# Altium integrated library Texas Instruments Power Management PWM Controller.IntLib: 1227 symbols (part 43 of 49)
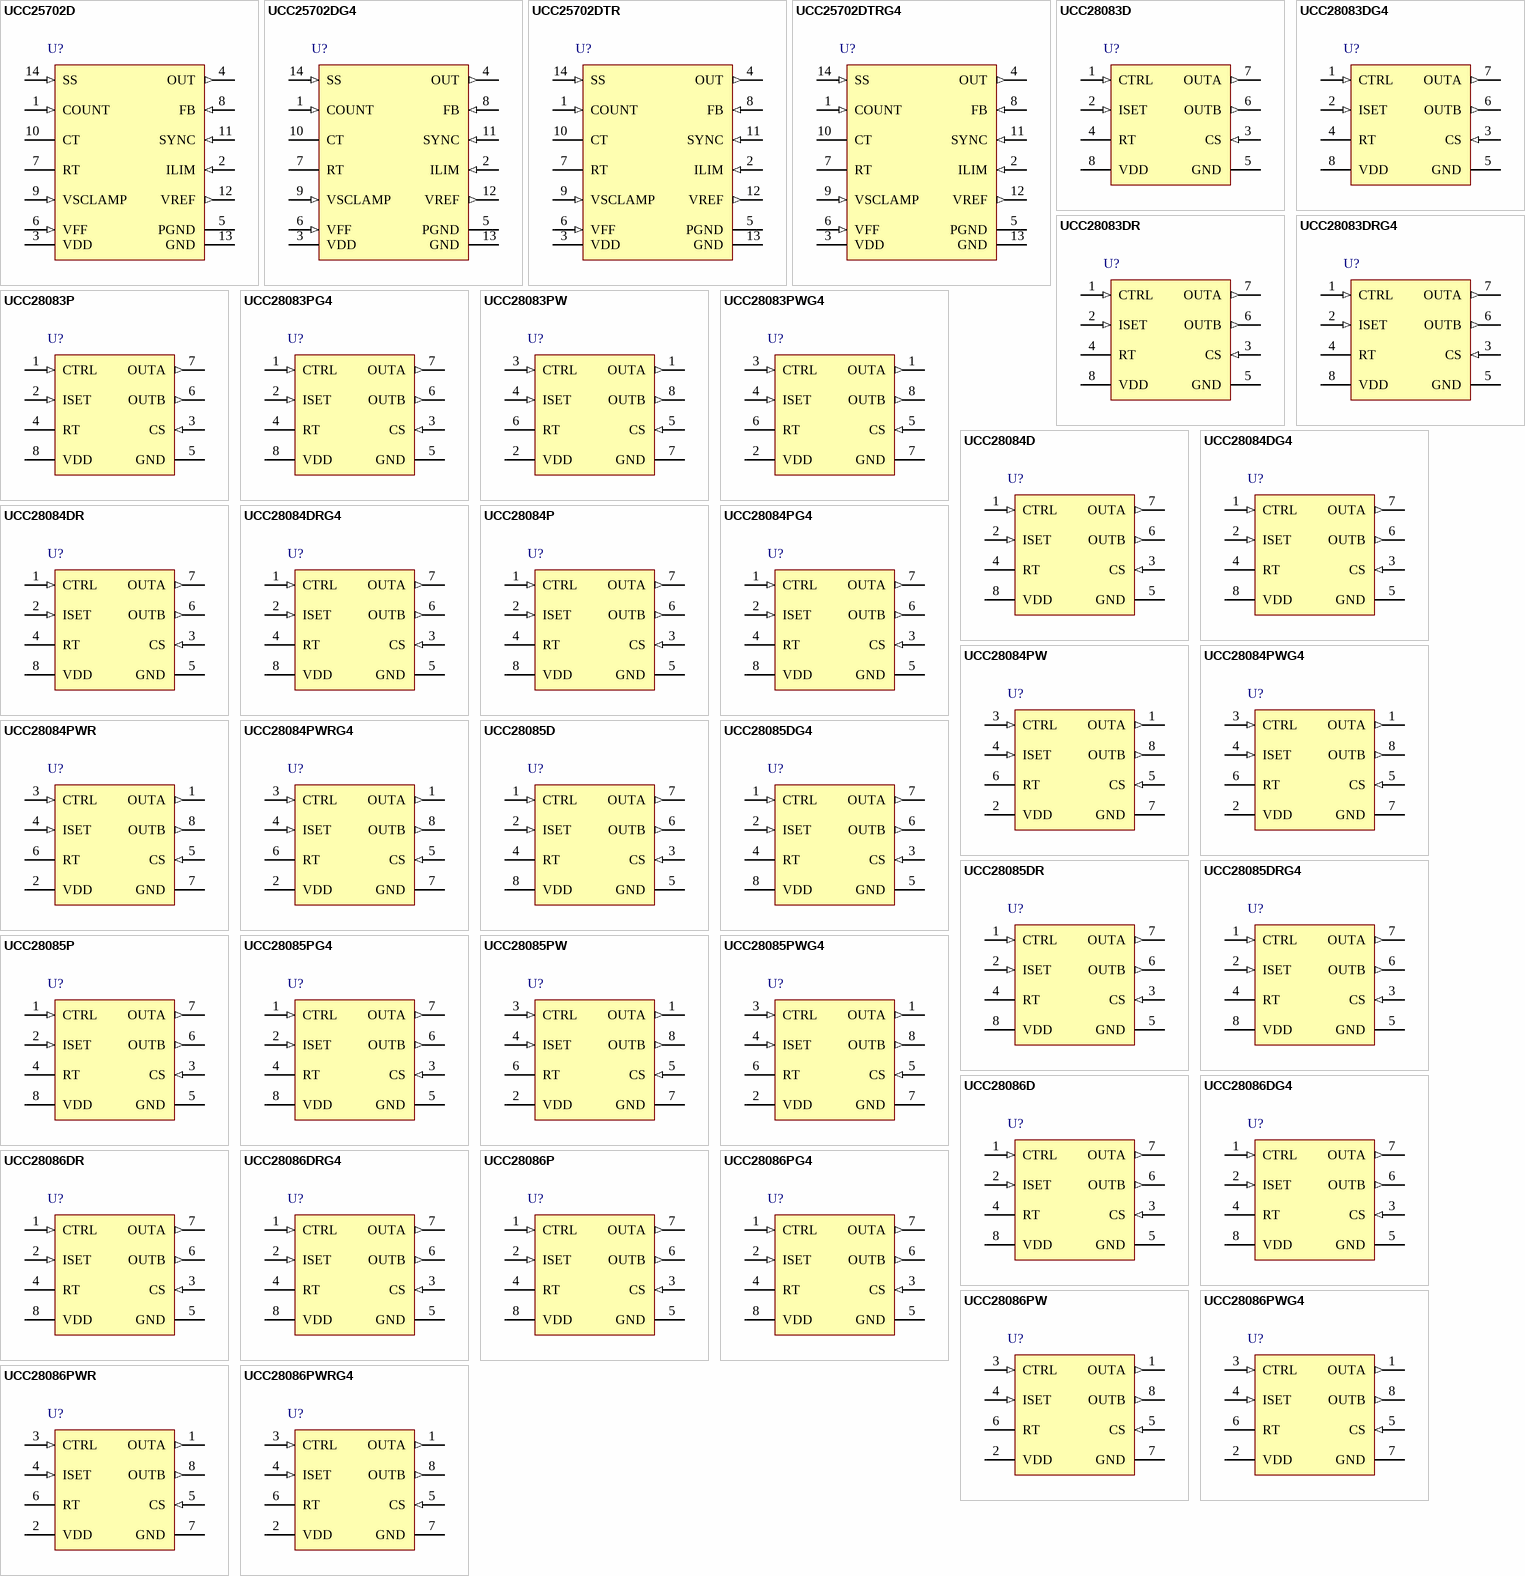
[diagram p85: symbols UCC25702D to UCC28086PWRG4]

## UCC28085DR
designator U?
Push-Pull PWM Controller with Programmable Slope Compensation with Current Control, 50 % Duty Cycle, -40 to +85 degC, 8-pin SOIC (D), Green (RoHS & no Sb/Br); PartNumber: UCC28085DR; Manufacturer: Texas Instruments; Duty Cycle(Max)(%): 50; Frequency(Max)(kHz): 1000; Rating: Catalog; Regulated Outputs(#): 2; Topology: Half-Bridge, Push-Pull; UVLO Thresholds On/Off(V): 12.5/8.3; DatasheetVersion: SLUS488E; PackageVersion: revM, Jun-2011; PackageReference: D8; PackageDescription: 8-Pin Plastic Small Outline Integrated Circuit, 4.9 x 3.9 mm, Pitch 1.27 mm Pitch; Supplier 1: Digi-Key; Supplier Part Number 1: UCC28085DR-ND; Supplier 2: Mouser; Supplier Part Number 2: 595-UCC28085DR; Control Method: Current; Eco-Plan: Green (RoHS & no Sb/Br); SubFamily: PWM Controller; Mounting Technology: Surface Mount; Code_JEDEC: MS-012AA; ComponentLink1Description: Datasheet; ComponentLink1URL: http://www.ti.com/general/docs/lit/getliterature.tsp?genericPartNumber=UCC28085&fileType=pdf
footprint D8_N (SOIC, 8-Leads, Body 4.9x3.9mm, Pitch 1.27mm, IPC Medium Density)
footprint D8_L (SOIC, 8-Leads, Body 4.9x3.9mm, Pitch 1.27mm, IPC High Density)
footprint D8_M (SOIC, 8-Leads, Body 4.9x3.9mm, Pitch 1.27mm, IPC Low Density)
pins: 1 CTRL (in) "Error voltage input to PWM comparator.", 2 ISET (in) "Current selection for slope compensation.", 3 CS (in) "The current-sense input to the PWM comparator, the cycle-by-cycle peak current comparator, and the overcurrent comparator. The overcurrent comparator is only intended for fault sensing. Exceeding the overcurrent threshold (See Datasheet)", 4 RT "Programs the oscillator.", 5 GND (power) "Reference ground and power ground for all functions. Due to high currents, and high-frequency operation of the IC, a low-impedance circuit board ground plane is highly recommended.", 6 OUTB (out) "Alternating high-current output stages.", 7 OUTA (out) "Alternating high-current output stages.", 8 VDD (power) "Power input connection."

## UCC28085DRG4
designator U?
Push-Pull PWM Controller with Programmable Slope Compensation with Current Control, 50 % Duty Cycle, -40 to +85 degC, 8-pin SOIC (D), Green (RoHS & no Sb/Br); PartNumber: UCC28085DRG4; Manufacturer: Texas Instruments; Duty Cycle(Max)(%): 50; Frequency(Max)(kHz): 1000; Rating: Catalog; Regulated Outputs(#): 2; Topology: Half-Bridge, Push-Pull; UVLO Thresholds On/Off(V): 12.5/8.3; DatasheetVersion: SLUS488E; PackageVersion: revM, Jun-2011; PackageReference: D8; PackageDescription: 8-Pin Plastic Small Outline Integrated Circuit, 4.9 x 3.9 mm, Pitch 1.27 mm Pitch; Supplier 1: Digi-Key; Supplier Part Number 1: UCC28085DRG4-ND; Supplier 2: Mouser; Supplier Part Number 2: 595-UCC28085DRG4; Control Method: Current; Eco-Plan: Green (RoHS & no Sb/Br); SubFamily: PWM Controller; Mounting Technology: Surface Mount; Code_JEDEC: MS-012AA; ComponentLink1Description: Datasheet; ComponentLink1URL: http://www.ti.com/general/docs/lit/getliterature.tsp?genericPartNumber=UCC28085&fileType=pdf
footprint D8_N (SOIC, 8-Leads, Body 4.9x3.9mm, Pitch 1.27mm, IPC Medium Density)
footprint D8_L (SOIC, 8-Leads, Body 4.9x3.9mm, Pitch 1.27mm, IPC High Density)
footprint D8_M (SOIC, 8-Leads, Body 4.9x3.9mm, Pitch 1.27mm, IPC Low Density)
pins: 1 CTRL (in) "Error voltage input to PWM comparator.", 2 ISET (in) "Current selection for slope compensation.", 3 CS (in) "The current-sense input to the PWM comparator, the cycle-by-cycle peak current comparator, and the overcurrent comparator. The overcurrent comparator is only intended for fault sensing. Exceeding the overcurrent threshold (See Datasheet)", 4 RT "Programs the oscillator.", 5 GND (power) "Reference ground and power ground for all functions. Due to high currents, and high-frequency operation of the IC, a low-impedance circuit board ground plane is highly recommended.", 6 OUTB (out) "Alternating high-current output stages.", 7 OUTA (out) "Alternating high-current output stages.", 8 VDD (power) "Power input connection."

## UCC28085P
designator U?
Push-Pull PWM Controller with Programmable Slope Compensation with Current Control, 50 % Duty Cycle, -40 to +85 degC, 8-pin PDIP (P), Green (RoHS & no Sb/Br); PartNumber: UCC28085P; Manufacturer: Texas Instruments; Duty Cycle(Max)(%): 50; Frequency(Max)(kHz): 1000; Rating: Catalog; Regulated Outputs(#): 2; Topology: Half-Bridge, Push-Pull; UVLO Thresholds On/Off(V): 12.5/8.3; DatasheetVersion: SLUS488E; PackageVersion: revE, Apr-2010; PackageReference: P8; PackageDescription: 8-Pin Plastic Dual-In-Line Package, Row Spacing 7.62 mm, Pitch 2.54 mm; Supplier 1: Digi-Key; Supplier Part Number 1: 296-13681-5-ND; Supplier 2: Newark; Supplier Part Number 2: 02E7320; Supplier 3: Mouser; Supplier Part Number 3: 595-UCC28085P; Control Method: Current; Eco-Plan: Green (RoHS & no Sb/Br); SubFamily: PWM Controller; Mounting Technology: Through Hole; Code_JEDEC: MS-001-BA; ComponentLink1Description: Datasheet; ComponentLink1URL: http://www.ti.com/general/docs/lit/getliterature.tsp?genericPartNumber=UCC28085&fileType=pdf
footprint P8 (DIP, 8-Leads, Row Spacing 7.62mm, Pitch 2.54mm, Body 9.6x6.4mm)
pins: 1 CTRL (in) "Error voltage input to PWM comparator.", 2 ISET (in) "Current selection for slope compensation.", 3 CS (in) "The current-sense input to the PWM comparator, the cycle-by-cycle peak current comparator, and the overcurrent comparator. The overcurrent comparator is only intended for fault sensing. Exceeding the overcurrent threshold (See Datasheet)", 4 RT "Programs the oscillator.", 5 GND (power) "Reference ground and power ground for all functions. Due to high currents, and high-frequency operation of the IC, a low-impedance circuit board ground plane is highly recommended.", 6 OUTB (out) "Alternating high-current output stages.", 7 OUTA (out) "Alternating high-current output stages.", 8 VDD (power) "Power input connection."

## UCC28085PG4
designator U?
Push-Pull PWM Controller with Programmable Slope Compensation with Current Control, 50 % Duty Cycle, -40 to +85 degC, 8-pin PDIP (P), Green (RoHS & no Sb/Br); PartNumber: UCC28085PG4; Manufacturer: Texas Instruments; Duty Cycle(Max)(%): 50; Frequency(Max)(kHz): 1000; Rating: Catalog; Regulated Outputs(#): 2; Topology: Half-Bridge, Push-Pull; UVLO Thresholds On/Off(V): 12.5/8.3; DatasheetVersion: SLUS488E; PackageVersion: revE, Apr-2010; PackageReference: P8; PackageDescription: 8-Pin Plastic Dual-In-Line Package, Row Spacing 7.62 mm, Pitch 2.54 mm; Supplier 1: Digi-Key; Supplier Part Number 1: UCC28085PG4-ND; Supplier 2: Newark; Supplier Part Number 2: 24K6297; Supplier 3: Mouser; Supplier Part Number 3: 595-UCC28085PG4; Control Method: Current; Eco-Plan: Green (RoHS & no Sb/Br); SubFamily: PWM Controller; Mounting Technology: Through Hole; Code_JEDEC: MS-001-BA; ComponentLink1Description: Datasheet; ComponentLink1URL: http://www.ti.com/general/docs/lit/getliterature.tsp?genericPartNumber=UCC28085&fileType=pdf
footprint P8 (DIP, 8-Leads, Row Spacing 7.62mm, Pitch 2.54mm, Body 9.6x6.4mm)
pins: 1 CTRL (in) "Error voltage input to PWM comparator.", 2 ISET (in) "Current selection for slope compensation.", 3 CS (in) "The current-sense input to the PWM comparator, the cycle-by-cycle peak current comparator, and the overcurrent comparator. The overcurrent comparator is only intended for fault sensing. Exceeding the overcurrent threshold (See Datasheet)", 4 RT "Programs the oscillator.", 5 GND (power) "Reference ground and power ground for all functions. Due to high currents, and high-frequency operation of the IC, a low-impedance circuit board ground plane is highly recommended.", 6 OUTB (out) "Alternating high-current output stages.", 7 OUTA (out) "Alternating high-current output stages.", 8 VDD (power) "Power input connection."

## UCC28085PW
designator U?
Push-Pull PWM Controller with Programmable Slope Compensation with Current Control, 50 % Duty Cycle, -40 to +85 degC, 8-pin TSSOP (PW), Green (RoHS & no Sb/Br); PartNumber: UCC28085PW; Manufacturer: Texas Instruments; Duty Cycle(Max)(%): 50; Frequency(Max)(kHz): 1000; Rating: Catalog; Regulated Outputs(#): 2; Topology: Half-Bridge, Push-Pull; UVLO Thresholds On/Off(V): 12.5/8.3; DatasheetVersion: SLUS488E; PackageVersion: revG, Feb-2011; PackageReference: PW8; PackageDescription: 8-Pin Plastic Thin Small Outline Package 3 x 4.4 mm Body ,0.65 mm Pitch; Supplier 1: Digi-Key; Supplier Part Number 1: 296-14335-5-ND; Supplier 2: Newark; Supplier Part Number 2: 22H1982; Supplier 3: Mouser; Supplier Part Number 3: 595-UCC28085PW; Control Method: Current; Eco-Plan: Green (RoHS & no Sb/Br); SubFamily: PWM Controller; Mounting Technology: Surface Mount; Code_JEDEC: MO-153; ComponentLink1Description: Datasheet; ComponentLink1URL: http://www.ti.com/general/docs/lit/getliterature.tsp?genericPartNumber=UCC28085&fileType=pdf
footprint PW8_N (TSOP, 8-Leads, Body 3x4.4mm, Pitch 0.65mm, IPC Medium Density)
footprint PW8_L (TSOP, 8-Leads, Body 3x4.4mm, Pitch 0.65mm, IPC High Density)
footprint PW8_M (TSOP, 8-Leads, Body 3x4.4mm, Pitch 0.65mm, IPC Low Density)
pins: 1 OUTA (out) "Alternating high-current output stages.", 2 VDD (power) "Power input connection.", 3 CTRL (in) "Error voltage input to PWM comparator.", 4 ISET (in) "Current selection for slope compensation.", 5 CS (in) "The current-sense input to the PWM comparator, the cycle-by-cycle peak current comparator, and the overcurrent comparator. The overcurrent comparator is only intended for fault sensing. Exceeding the overcurrent threshold (See Datasheet)", 6 RT "Programs the oscillator.", 7 GND (power) "Reference ground and power ground for all functions. Due to high currents, and high-frequency operation of the IC, a low-impedance circuit board ground plane is highly recommended.", 8 OUTB (out) "Alternating high-current output stages."

## UCC28085PWG4
designator U?
Push-Pull PWM Controller with Programmable Slope Compensation with Current Control, 50 % Duty Cycle, -40 to +85 degC, 8-pin TSSOP (PW), Green (RoHS & no Sb/Br); PartNumber: UCC28085PWG4; Manufacturer: Texas Instruments; Duty Cycle(Max)(%): 50; Frequency(Max)(kHz): 1000; Rating: Catalog; Regulated Outputs(#): 2; Topology: Half-Bridge, Push-Pull; UVLO Thresholds On/Off(V): 12.5/8.3; DatasheetVersion: SLUS488E; PackageVersion: revG, Feb-2011; PackageReference: PW8; PackageDescription: 8-Pin Plastic Thin Small Outline Package 3 x 4.4 mm Body ,0.65 mm Pitch; Supplier 1: Digi-Key; Supplier Part Number 1: UCC28085PWG4-ND; Supplier 2: Newark; Supplier Part Number 2: 54K2003; Supplier 3: Mouser; Supplier Part Number 3: 595-UCC28085PWG4; Control Method: Current; Eco-Plan: Green (RoHS & no Sb/Br); SubFamily: PWM Controller; Mounting Technology: Surface Mount; Code_JEDEC: MO-153; ComponentLink1Description: Datasheet; ComponentLink1URL: http://www.ti.com/general/docs/lit/getliterature.tsp?genericPartNumber=UCC28085&fileType=pdf
footprint PW8_N (TSOP, 8-Leads, Body 3x4.4mm, Pitch 0.65mm, IPC Medium Density)
footprint PW8_L (TSOP, 8-Leads, Body 3x4.4mm, Pitch 0.65mm, IPC High Density)
footprint PW8_M (TSOP, 8-Leads, Body 3x4.4mm, Pitch 0.65mm, IPC Low Density)
pins: 1 OUTA (out) "Alternating high-current output stages.", 2 VDD (power) "Power input connection.", 3 CTRL (in) "Error voltage input to PWM comparator.", 4 ISET (in) "Current selection for slope compensation.", 5 CS (in) "The current-sense input to the PWM comparator, the cycle-by-cycle peak current comparator, and the overcurrent comparator. The overcurrent comparator is only intended for fault sensing. Exceeding the overcurrent threshold (See Datasheet)", 6 RT "Programs the oscillator.", 7 GND (power) "Reference ground and power ground for all functions. Due to high currents, and high-frequency operation of the IC, a low-impedance circuit board ground plane is highly recommended.", 8 OUTB (out) "Alternating high-current output stages."

## UCC28086D
designator U?
Push-Pull PWM Controller with Programmable Slope Compensation with Current Control, 50 % Duty Cycle, -40 to +85 degC, 8-pin SOIC (D), Green (RoHS & no Sb/Br); PartNumber: UCC28086D; Manufacturer: Texas Instruments; Duty Cycle(Max)(%): 50; Frequency(Max)(kHz): 1000; Rating: Catalog; Regulated Outputs(#): 2; Topology: Half-Bridge, Push-Pull; UVLO Thresholds On/Off(V): 4.3/4.1; DatasheetVersion: SLUS488E; PackageVersion: revM, Jun-2011; PackageReference: D8; PackageDescription: 8-Pin Plastic Small Outline Integrated Circuit, 4.9 x 3.9 mm, Pitch 1.27 mm Pitch; Supplier 1: Digi-Key; Supplier Part Number 1: 296-13682-5-ND; Supplier 2: Newark; Supplier Part Number 2: 02E7321; Supplier 3: Mouser; Supplier Part Number 3: 595-UCC28086D; Control Method: Current; Eco-Plan: Green (RoHS & no Sb/Br); SubFamily: PWM Controller; Mounting Technology: Surface Mount; Code_JEDEC: MS-012AA; ComponentLink1Description: Datasheet; ComponentLink1URL: http://www.ti.com/general/docs/lit/getliterature.tsp?genericPartNumber=UCC28086&fileType=pdf
footprint D8_N (SOIC, 8-Leads, Body 4.9x3.9mm, Pitch 1.27mm, IPC Medium Density)
footprint D8_L (SOIC, 8-Leads, Body 4.9x3.9mm, Pitch 1.27mm, IPC High Density)
footprint D8_M (SOIC, 8-Leads, Body 4.9x3.9mm, Pitch 1.27mm, IPC Low Density)
pins: 1 CTRL (in) "Error voltage input to PWM comparator.", 2 ISET (in) "Current selection for slope compensation.", 3 CS (in) "The current-sense input to the PWM comparator, the cycle-by-cycle peak current comparator, and the overcurrent comparator. The overcurrent comparator is only intended for fault sensing. Exceeding the overcurrent threshold (See Datasheet)", 4 RT "Programs the oscillator.", 5 GND (power) "Reference ground and power ground for all functions. Due to high currents, and high-frequency operation of the IC, a low-impedance circuit board ground plane is highly recommended.", 6 OUTB (out) "Alternating high-current output stages.", 7 OUTA (out) "Alternating high-current output stages.", 8 VDD (power) "Power input connection."

## UCC28086DG4
designator U?
Push-Pull PWM Controller with Programmable Slope Compensation with Current Control, 50 % Duty Cycle, -40 to +85 degC, 8-pin SOIC (D), Green (RoHS & no Sb/Br); PartNumber: UCC28086DG4; Manufacturer: Texas Instruments; Duty Cycle(Max)(%): 50; Frequency(Max)(kHz): 1000; Rating: Catalog; Regulated Outputs(#): 2; Topology: Half-Bridge, Push-Pull; UVLO Thresholds On/Off(V): 4.3/4.1; DatasheetVersion: SLUS488E; PackageVersion: revM, Jun-2011; PackageReference: D8; PackageDescription: 8-Pin Plastic Small Outline Integrated Circuit, 4.9 x 3.9 mm, Pitch 1.27 mm Pitch; Supplier 1: Digi-Key; Supplier Part Number 1: UCC28086DG4-ND; Supplier 2: Newark; Supplier Part Number 2: 58K7047; Supplier 3: Mouser; Supplier Part Number 3: 595-UCC28086DG4; Control Method: Current; Eco-Plan: Green (RoHS & no Sb/Br); SubFamily: PWM Controller; Mounting Technology: Surface Mount; Code_JEDEC: MS-012AA; ComponentLink1Description: Datasheet; ComponentLink1URL: http://www.ti.com/general/docs/lit/getliterature.tsp?genericPartNumber=UCC28086&fileType=pdf
footprint D8_N (SOIC, 8-Leads, Body 4.9x3.9mm, Pitch 1.27mm, IPC Medium Density)
footprint D8_L (SOIC, 8-Leads, Body 4.9x3.9mm, Pitch 1.27mm, IPC High Density)
footprint D8_M (SOIC, 8-Leads, Body 4.9x3.9mm, Pitch 1.27mm, IPC Low Density)
pins: 1 CTRL (in) "Error voltage input to PWM comparator.", 2 ISET (in) "Current selection for slope compensation.", 3 CS (in) "The current-sense input to the PWM comparator, the cycle-by-cycle peak current comparator, and the overcurrent comparator. The overcurrent comparator is only intended for fault sensing. Exceeding the overcurrent threshold (See Datasheet)", 4 RT "Programs the oscillator.", 5 GND (power) "Reference ground and power ground for all functions. Due to high currents, and high-frequency operation of the IC, a low-impedance circuit board ground plane is highly recommended.", 6 OUTB (out) "Alternating high-current output stages.", 7 OUTA (out) "Alternating high-current output stages.", 8 VDD (power) "Power input connection."

## UCC28086DR
designator U?
Push-Pull PWM Controller with Programmable Slope Compensation with Current Control, 50 % Duty Cycle, -40 to +85 degC, 8-pin SOIC (D), Green (RoHS & no Sb/Br); PartNumber: UCC28086DR; Manufacturer: Texas Instruments; Duty Cycle(Max)(%): 50; Frequency(Max)(kHz): 1000; Rating: Catalog; Regulated Outputs(#): 2; Topology: Half-Bridge, Push-Pull; UVLO Thresholds On/Off(V): 4.3/4.1; DatasheetVersion: SLUS488E; PackageVersion: revM, Jun-2011; PackageReference: D8; PackageDescription: 8-Pin Plastic Small Outline Integrated Circuit, 4.9 x 3.9 mm, Pitch 1.27 mm Pitch; Supplier 1: Digi-Key; Supplier Part Number 1: UCC28086DR-ND; Supplier 2: Newark; Supplier Part Number 2: 02E7322; Supplier 3: Mouser; Supplier Part Number 3: 595-UCC28086DR; Control Method: Current; Eco-Plan: Green (RoHS & no Sb/Br); SubFamily: PWM Controller; Mounting Technology: Surface Mount; Code_JEDEC: MS-012AA; ComponentLink1Description: Datasheet; ComponentLink1URL: http://www.ti.com/general/docs/lit/getliterature.tsp?genericPartNumber=UCC28086&fileType=pdf
footprint D8_N (SOIC, 8-Leads, Body 4.9x3.9mm, Pitch 1.27mm, IPC Medium Density)
footprint D8_L (SOIC, 8-Leads, Body 4.9x3.9mm, Pitch 1.27mm, IPC High Density)
footprint D8_M (SOIC, 8-Leads, Body 4.9x3.9mm, Pitch 1.27mm, IPC Low Density)
pins: 1 CTRL (in) "Error voltage input to PWM comparator.", 2 ISET (in) "Current selection for slope compensation.", 3 CS (in) "The current-sense input to the PWM comparator, the cycle-by-cycle peak current comparator, and the overcurrent comparator. The overcurrent comparator is only intended for fault sensing. Exceeding the overcurrent threshold (See Datasheet)", 4 RT "Programs the oscillator.", 5 GND (power) "Reference ground and power ground for all functions. Due to high currents, and high-frequency operation of the IC, a low-impedance circuit board ground plane is highly recommended.", 6 OUTB (out) "Alternating high-current output stages.", 7 OUTA (out) "Alternating high-current output stages.", 8 VDD (power) "Power input connection."

## UCC28086DRG4
designator U?
Push-Pull PWM Controller with Programmable Slope Compensation with Current Control, 50 % Duty Cycle, -40 to +85 degC, 8-pin SOIC (D), Green (RoHS & no Sb/Br); PartNumber: UCC28086DRG4; Manufacturer: Texas Instruments; Duty Cycle(Max)(%): 50; Frequency(Max)(kHz): 1000; Rating: Catalog; Regulated Outputs(#): 2; Topology: Half-Bridge, Push-Pull; UVLO Thresholds On/Off(V): 4.3/4.1; DatasheetVersion: SLUS488E; PackageVersion: revM, Jun-2011; PackageReference: D8; PackageDescription: 8-Pin Plastic Small Outline Integrated Circuit, 4.9 x 3.9 mm, Pitch 1.27 mm Pitch; Supplier 1: Digi-Key; Supplier Part Number 1: UCC28086DRG4-ND; Supplier 2: Newark; Supplier Part Number 2: 54K2005; Supplier 3: Mouser; Supplier Part Number 3: 595-UCC28086DRG4; Control Method: Current; Eco-Plan: Green (RoHS & no Sb/Br); SubFamily: PWM Controller; Mounting Technology: Surface Mount; Code_JEDEC: MS-012AA; ComponentLink1Description: Datasheet; ComponentLink1URL: http://www.ti.com/general/docs/lit/getliterature.tsp?genericPartNumber=UCC28086&fileType=pdf
footprint D8_N (SOIC, 8-Leads, Body 4.9x3.9mm, Pitch 1.27mm, IPC Medium Density)
footprint D8_L (SOIC, 8-Leads, Body 4.9x3.9mm, Pitch 1.27mm, IPC High Density)
footprint D8_M (SOIC, 8-Leads, Body 4.9x3.9mm, Pitch 1.27mm, IPC Low Density)
pins: 1 CTRL (in) "Error voltage input to PWM comparator.", 2 ISET (in) "Current selection for slope compensation.", 3 CS (in) "The current-sense input to the PWM comparator, the cycle-by-cycle peak current comparator, and the overcurrent comparator. The overcurrent comparator is only intended for fault sensing. Exceeding the overcurrent threshold (See Datasheet)", 4 RT "Programs the oscillator.", 5 GND (power) "Reference ground and power ground for all functions. Due to high currents, and high-frequency operation of the IC, a low-impedance circuit board ground plane is highly recommended.", 6 OUTB (out) "Alternating high-current output stages.", 7 OUTA (out) "Alternating high-current output stages.", 8 VDD (power) "Power input connection."

## UCC28086P
designator U?
Push-Pull PWM Controller with Programmable Slope Compensation with Current Control, 50 % Duty Cycle, -40 to +85 degC, 8-pin PDIP (P), Green (RoHS & no Sb/Br); PartNumber: UCC28086P; Manufacturer: Texas Instruments; Duty Cycle(Max)(%): 50; Frequency(Max)(kHz): 1000; Rating: Catalog; Regulated Outputs(#): 2; Topology: Half-Bridge, Push-Pull; UVLO Thresholds On/Off(V): 4.3/4.1; DatasheetVersion: SLUS488E; PackageVersion: revE, Apr-2010; PackageReference: P8; PackageDescription: 8-Pin Plastic Dual-In-Line Package, Row Spacing 7.62 mm, Pitch 2.54 mm; Supplier 1: Digi-Key; Supplier Part Number 1: 296-13683-5-ND; Supplier 2: Newark; Supplier Part Number 2: 02E7323; Supplier 3: Mouser; Supplier Part Number 3: 595-UCC28086P; Control Method: Current; Eco-Plan: Green (RoHS & no Sb/Br); SubFamily: PWM Controller; Mounting Technology: Through Hole; Code_JEDEC: MS-001-BA; ComponentLink1Description: Datasheet; ComponentLink1URL: http://www.ti.com/general/docs/lit/getliterature.tsp?genericPartNumber=UCC28086&fileType=pdf
footprint P8 (DIP, 8-Leads, Row Spacing 7.62mm, Pitch 2.54mm, Body 9.6x6.4mm)
pins: 1 CTRL (in) "Error voltage input to PWM comparator.", 2 ISET (in) "Current selection for slope compensation.", 3 CS (in) "The current-sense input to the PWM comparator, the cycle-by-cycle peak current comparator, and the overcurrent comparator. The overcurrent comparator is only intended for fault sensing. Exceeding the overcurrent threshold (See Datasheet)", 4 RT "Programs the oscillator.", 5 GND (power) "Reference ground and power ground for all functions. Due to high currents, and high-frequency operation of the IC, a low-impedance circuit board ground plane is highly recommended.", 6 OUTB (out) "Alternating high-current output stages.", 7 OUTA (out) "Alternating high-current output stages.", 8 VDD (power) "Power input connection."

## UCC28086PG4
designator U?
Push-Pull PWM Controller with Programmable Slope Compensation with Current Control, 50 % Duty Cycle, -40 to +85 degC, 8-pin PDIP (P), Green (RoHS & no Sb/Br); PartNumber: UCC28086PG4; Manufacturer: Texas Instruments; Duty Cycle(Max)(%): 50; Frequency(Max)(kHz): 1000; Rating: Catalog; Regulated Outputs(#): 2; Topology: Half-Bridge, Push-Pull; UVLO Thresholds On/Off(V): 4.3/4.1; DatasheetVersion: SLUS488E; PackageVersion: revE, Apr-2010; PackageReference: P8; PackageDescription: 8-Pin Plastic Dual-In-Line Package, Row Spacing 7.62 mm, Pitch 2.54 mm; Supplier 1: Digi-Key; Supplier Part Number 1: UCC28086PG4-ND; Supplier 2: Newark; Supplier Part Number 2: 24K6298; Supplier 3: Mouser; Supplier Part Number 3: 595-UCC28086PG4; Control Method: Current; Eco-Plan: Green (RoHS & no Sb/Br); SubFamily: PWM Controller; Mounting Technology: Through Hole; Code_JEDEC: MS-001-BA; ComponentLink1Description: Datasheet; ComponentLink1URL: http://www.ti.com/general/docs/lit/getliterature.tsp?genericPartNumber=UCC28086&fileType=pdf
footprint P8 (DIP, 8-Leads, Row Spacing 7.62mm, Pitch 2.54mm, Body 9.6x6.4mm)
pins: 1 CTRL (in) "Error voltage input to PWM comparator.", 2 ISET (in) "Current selection for slope compensation.", 3 CS (in) "The current-sense input to the PWM comparator, the cycle-by-cycle peak current comparator, and the overcurrent comparator. The overcurrent comparator is only intended for fault sensing. Exceeding the overcurrent threshold (See Datasheet)", 4 RT "Programs the oscillator.", 5 GND (power) "Reference ground and power ground for all functions. Due to high currents, and high-frequency operation of the IC, a low-impedance circuit board ground plane is highly recommended.", 6 OUTB (out) "Alternating high-current output stages.", 7 OUTA (out) "Alternating high-current output stages.", 8 VDD (power) "Power input connection."

## UCC28086PW
designator U?
Push-Pull PWM Controller with Programmable Slope Compensation with Current Control, 50 % Duty Cycle, -40 to +85 degC, 8-pin TSSOP (PW), Green (RoHS & no Sb/Br); PartNumber: UCC28086PW; Manufacturer: Texas Instruments; Duty Cycle(Max)(%): 50; Frequency(Max)(kHz): 1000; Rating: Catalog; Regulated Outputs(#): 2; Topology: Half-Bridge, Push-Pull; UVLO Thresholds On/Off(V): 4.3/4.1; DatasheetVersion: SLUS488E; PackageVersion: revG, Feb-2011; PackageReference: PW8; PackageDescription: 8-Pin Plastic Thin Small Outline Package 3 x 4.4 mm Body ,0.65 mm Pitch; Supplier 1: Digi-Key; Supplier Part Number 1: 296-15690-5-ND; Supplier 2: Newark; Supplier Part Number 2: 22H1984; Supplier 3: Mouser; Supplier Part Number 3: 595-UCC28086PW; Control Method: Current; Eco-Plan: Green (RoHS & no Sb/Br); SubFamily: PWM Controller; Mounting Technology: Surface Mount; Code_JEDEC: MO-153; ComponentLink1Description: Datasheet; ComponentLink1URL: http://www.ti.com/general/docs/lit/getliterature.tsp?genericPartNumber=UCC28086&fileType=pdf
footprint PW8_N (TSOP, 8-Leads, Body 3x4.4mm, Pitch 0.65mm, IPC Medium Density)
footprint PW8_L (TSOP, 8-Leads, Body 3x4.4mm, Pitch 0.65mm, IPC High Density)
footprint PW8_M (TSOP, 8-Leads, Body 3x4.4mm, Pitch 0.65mm, IPC Low Density)
pins: 1 OUTA (out) "Alternating high-current output stages.", 2 VDD (power) "Power input connection.", 3 CTRL (in) "Error voltage input to PWM comparator.", 4 ISET (in) "Current selection for slope compensation.", 5 CS (in) "The current-sense input to the PWM comparator, the cycle-by-cycle peak current comparator, and the overcurrent comparator. The overcurrent comparator is only intended for fault sensing. Exceeding the overcurrent threshold (See Datasheet)", 6 RT "Programs the oscillator.", 7 GND (power) "Reference ground and power ground for all functions. Due to high currents, and high-frequency operation of the IC, a low-impedance circuit board ground plane is highly recommended.", 8 OUTB (out) "Alternating high-current output stages."

## UCC28086PWG4
designator U?
Push-Pull PWM Controller with Programmable Slope Compensation with Current Control, 50 % Duty Cycle, -40 to +85 degC, 8-pin TSSOP (PW), Green (RoHS & no Sb/Br); PartNumber: UCC28086PWG4; Manufacturer: Texas Instruments; Duty Cycle(Max)(%): 50; Frequency(Max)(kHz): 1000; Rating: Catalog; Regulated Outputs(#): 2; Topology: Half-Bridge, Push-Pull; UVLO Thresholds On/Off(V): 4.3/4.1; DatasheetVersion: SLUS488E; PackageVersion: revG, Feb-2011; PackageReference: PW8; PackageDescription: 8-Pin Plastic Thin Small Outline Package 3 x 4.4 mm Body ,0.65 mm Pitch; Supplier 1: Digi-Key; Supplier Part Number 1: UCC28086PWG4-ND; Supplier 2: Newark; Supplier Part Number 2: 70K5881; Supplier 3: Mouser; Supplier Part Number 3: 595-UCC28086PWG4; Control Method: Current; Eco-Plan: Green (RoHS & no Sb/Br); SubFamily: PWM Controller; Mounting Technology: Surface Mount; Code_JEDEC: MO-153; ComponentLink1Description: Datasheet; ComponentLink1URL: http://www.ti.com/general/docs/lit/getliterature.tsp?genericPartNumber=UCC28086&fileType=pdf
footprint PW8_N (TSOP, 8-Leads, Body 3x4.4mm, Pitch 0.65mm, IPC Medium Density)
footprint PW8_L (TSOP, 8-Leads, Body 3x4.4mm, Pitch 0.65mm, IPC High Density)
footprint PW8_M (TSOP, 8-Leads, Body 3x4.4mm, Pitch 0.65mm, IPC Low Density)
pins: 1 OUTA (out) "Alternating high-current output stages.", 2 VDD (power) "Power input connection.", 3 CTRL (in) "Error voltage input to PWM comparator.", 4 ISET (in) "Current selection for slope compensation.", 5 CS (in) "The current-sense input to the PWM comparator, the cycle-by-cycle peak current comparator, and the overcurrent comparator. The overcurrent comparator is only intended for fault sensing. Exceeding the overcurrent threshold (See Datasheet)", 6 RT "Programs the oscillator.", 7 GND (power) "Reference ground and power ground for all functions. Due to high currents, and high-frequency operation of the IC, a low-impedance circuit board ground plane is highly recommended.", 8 OUTB (out) "Alternating high-current output stages."

## UCC28086PWR
designator U?
Push-Pull PWM Controller with Programmable Slope Compensation with Current Control, 50 % Duty Cycle, -40 to +85 degC, 8-pin TSSOP (PW), Green (RoHS & no Sb/Br); PartNumber: UCC28086PWR; Manufacturer: Texas Instruments; Duty Cycle(Max)(%): 50; Frequency(Max)(kHz): 1000; Rating: Catalog; Regulated Outputs(#): 2; Topology: Half-Bridge, Push-Pull; UVLO Thresholds On/Off(V): 4.3/4.1; DatasheetVersion: SLUS488E; PackageVersion: revG, Feb-2011; PackageReference: PW8; PackageDescription: 8-Pin Plastic Thin Small Outline Package 3 x 4.4 mm Body ,0.65 mm Pitch; Supplier 1: Digi-Key; Supplier Part Number 1: UCC28086PWR-ND; Supplier 2: Newark; Supplier Part Number 2: 22H1985; Supplier 3: Mouser; Supplier Part Number 3: 595-UCC28086PWR; Control Method: Current; Eco-Plan: Green (RoHS & no Sb/Br); SubFamily: PWM Controller; Mounting Technology: Surface Mount; Code_JEDEC: MO-153; ComponentLink1Description: Datasheet; ComponentLink1URL: http://www.ti.com/general/docs/lit/getliterature.tsp?genericPartNumber=UCC28086&fileType=pdf
footprint PW8_N (TSOP, 8-Leads, Body 3x4.4mm, Pitch 0.65mm, IPC Medium Density)
footprint PW8_L (TSOP, 8-Leads, Body 3x4.4mm, Pitch 0.65mm, IPC High Density)
footprint PW8_M (TSOP, 8-Leads, Body 3x4.4mm, Pitch 0.65mm, IPC Low Density)
pins: 1 OUTA (out) "Alternating high-current output stages.", 2 VDD (power) "Power input connection.", 3 CTRL (in) "Error voltage input to PWM comparator.", 4 ISET (in) "Current selection for slope compensation.", 5 CS (in) "The current-sense input to the PWM comparator, the cycle-by-cycle peak current comparator, and the overcurrent comparator. The overcurrent comparator is only intended for fault sensing. Exceeding the overcurrent threshold (See Datasheet)", 6 RT "Programs the oscillator.", 7 GND (power) "Reference ground and power ground for all functions. Due to high currents, and high-frequency operation of the IC, a low-impedance circuit board ground plane is highly recommended.", 8 OUTB (out) "Alternating high-current output stages."

## UCC28086PWRG4
designator U?
Current Mode Push-Pull PWM Controller with Programmable Slope Compensation with Current Control, 50 % Duty Cycle, -40 to +85 degC, 8-pin TSSOP (PW), Green (RoHS & no Sb/Br); PartNumber: UCC28086PWRG4; Manufacturer: Texas Instruments; Duty Cycle(Max)(%): 50; Frequency(Max)(kHz): 1000; Rating: Catalog; Regulated Outputs(#): 2; Topology: Half-Bridge, Push-Pull; UVLO Thresholds On/Off(V): 4.3/4.1; DatasheetVersion: SLUS488E; PackageVersion: revG, Feb-2011; PackageReference: PW8; PackageDescription: 8-Pin Plastic Thin Small Outline Package 3 x 4.4 mm Body ,0.65 mm Pitch; Supplier 1: Digi-Key; Supplier Part Number 1: UCC28086PWRG4-ND; Supplier 2: Newark; Supplier Part Number 2: 54K2006; Supplier 3: Mouser; Supplier Part Number 3: 595-UCC28086PWRG4; Control Method: Current; Eco-Plan: Green (RoHS & no Sb/Br); SubFamily: PWM Controller; Mounting Technology: Surface Mount; Code_JEDEC: MO-153; ComponentLink1Description: Datasheet; ComponentLink1URL: http://www.ti.com/general/docs/lit/getliterature.tsp?genericPartNumber=UCC28086&fileType=pdf
footprint PW8_N (TSOP, 8-Leads, Body 3x4.4mm, Pitch 0.65mm, IPC Medium Density)
footprint PW8_L (TSOP, 8-Leads, Body 3x4.4mm, Pitch 0.65mm, IPC High Density)
footprint PW8_M (TSOP, 8-Leads, Body 3x4.4mm, Pitch 0.65mm, IPC Low Density)
pins: 1 OUTA (out) "Alternating high-current output stages.", 2 VDD (power) "Power input connection.", 3 CTRL (in) "Error voltage input to PWM comparator.", 4 ISET (in) "Current selection for slope compensation.", 5 CS (in) "The current-sense input to the PWM comparator, the cycle-by-cycle peak current comparator, and the overcurrent comparator. The overcurrent comparator is only intended for fault sensing. Exceeding the overcurrent threshold (See Datasheet)", 6 RT "Programs the oscillator.", 7 GND (power) "Reference ground and power ground for all functions. Due to high currents, and high-frequency operation of the IC, a low-impedance circuit board ground plane is highly recommended.", 8 OUTB (out) "Alternating high-current output stages."

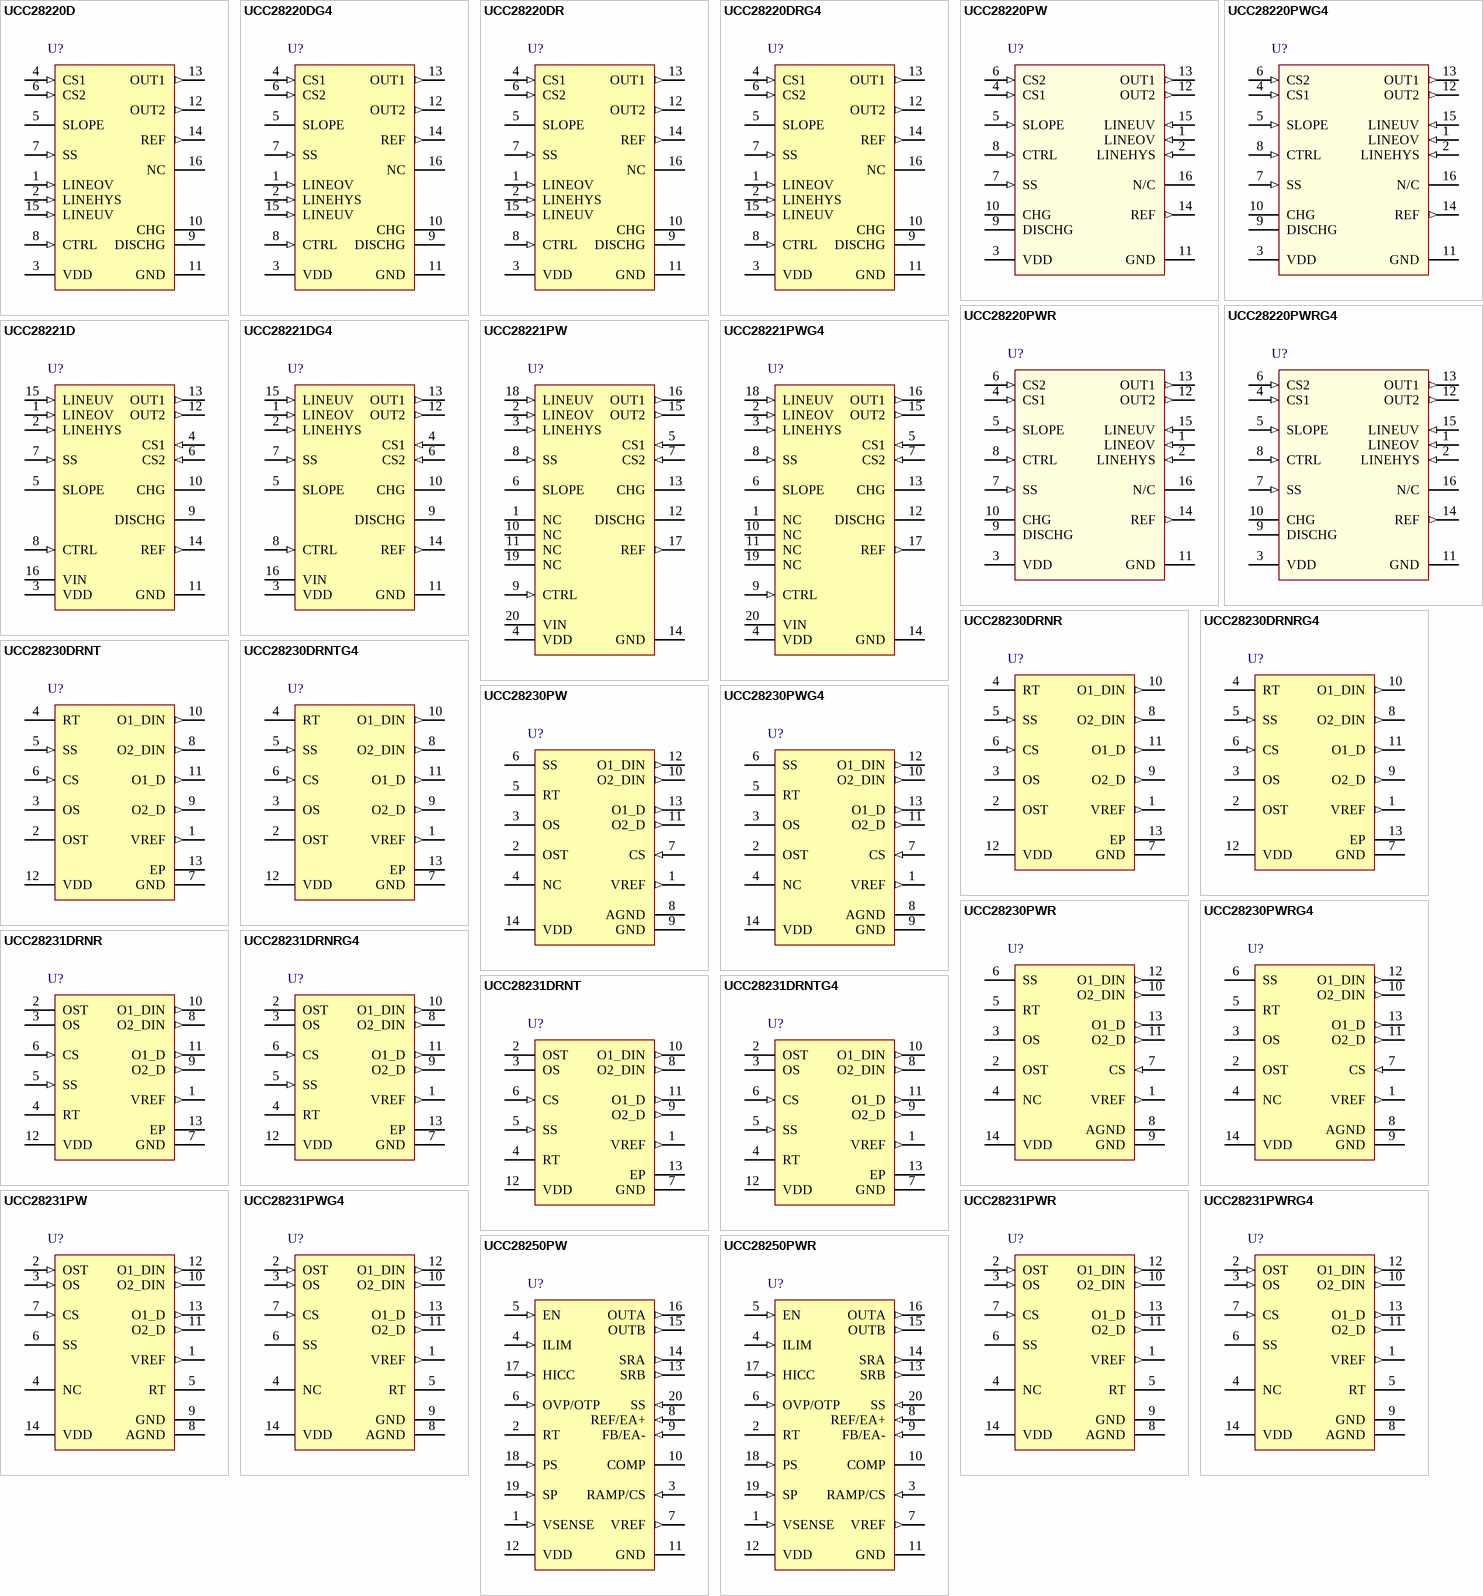
[diagram p41: symbols UCC28220D to UCC28250PWR]

## UCC28220D
designator U?
Interleaved Dual PWM Controller with Programmable Max Duty Cycle with Current Control, 90 % Duty Cycle, -40 to +105 degC, 16-pin SOIC (D), Green (RoHS & no Sb/Br); PartNumber: UCC28220D; Manufacturer: Texas Instruments; Duty Cycle(Max)(%): 90; Frequency(Max)(kHz): 2000; Rating: Catalog; Regulated Outputs(#): 2; Topology: Flyback, Forward; UVLO Thresholds On/Off(V): 10.0/8.0; DatasheetVersion: SLUS544E; PackageVersion: revM, Jun-2011; PackageReference: D16; PackageDescription: 16-Pin Plastic Small Outline Integrated Circuit, 9.9 x 3.9 mm, Pitch 1.27 mm Pitch; Supplier 1: Digi-Key; Supplier Part Number 1: 296-15755-5-ND; Supplier 2: Farnell; Supplier Part Number 2: 8462887; Supplier 3: Newark; Supplier Part Number 3: 87H4688; Supplier 4: Mouser; Supplier Part Number 4: 595-UCC28220D; Control Method: Current; Eco-Plan: Green (RoHS & no Sb/Br); SubFamily: PWM Controller; Mounting Technology: Surface Mount; Code_JEDEC: MS-012AC; ComponentLink1Description: Datasheet; ComponentLink1URL: http://www.ti.com/general/docs/lit/getliterature.tsp?genericPartNumber=UCC28220&fileType=pdf
footprint D16_N (SOIC, 16-Leads, Body 9.9x3.9mm, Pitch 1.27mm, IPC Medium Density)
footprint D16_L (SOIC, 16-Leads, Body 9.9x3.9mm, Pitch 1.27mm, IPC High Density)
footprint D16_M (SOIC, 16-Leads, Body 9.9x3.9mm, Pitch 1.27mm, IPC Low Density)
pins: 1 LINEOV (in) "This pin is connected to a comparator and used to monitor the line voltage for an over voltage condition. The typical threshold is 1.26 V.", 2 LINEHYS (in) "This pin is controlled by both the LINEOV and LINEUV pins. It is used to control the hysteresis values for both the over and under voltage line detectors.", 3 VDD (power) "This is used to supply power to the device, monitoring this pin is a the UVLO circuit.", 4 CS1 (in) "This pin is the current sense inputs to the device.", 5 SLOPE "This pin sets up a current used for the slope compensation ramp. A resistor to ground sets up a current, which is internally divided by 25 and then applied to an internal 10-pF capacitor. Under normal operation th dc voltage (See Datasheet)", 6 CS2 (in) "This pin is the current sense inputs to the device.", 7 SS (in) "A capacitor to ground sets up the soft-start time for the open loop soft-start function.", 8 CTRL (in) "Feedback control input.", 9 DISCHG "A resistor from this pin to GND sets up the discharge current of the internal CT capacitor used in the oscillator. This resistor, in conjunction with the resistor on the CHG pin is used to set up the operating frequency and (See Datasheet)", 10 CHG "A resistor from this pin to GND sets up the charging current of the internal CT capacitor used in the oscillator. This resistor, in conjunction with the resistor on the DISCHG pin is used to set up the operating frequency (See Datasheet)", 11 GND (power) "Device ground", 12 OUT2 (out) "This output buffer is intended to interface with high current MOSFET drivers. The output drive capability is approximately 33 mA and has an output impedance of 100 ohm. The outputs swing between GND and REF.", 13 OUT1 (out) "This output buffer is intended to interface with high current MOSFET drivers. The output drive capability is approximately 33 mA and has an output impedance of 100 ohm. The outputs swing between GND and REF.", 14 REF (out) "REF is a 3.3-V output used primarily as a source for the output buffers and other internal circuits. It is protected from accidental shorts to ground. For improved noise immunity it is recommended that the reference pin be (See Datasheet)", 15 LINEUV (in) "This pin is connected to a comparator and used to monitor the line voltage for an under voltage condition. The typical threshold is 1.26 V.", 16 NC "No connection."

## UCC28220DG4
designator U?
Interleaved Dual PWM Controller with Programmable Max Duty Cycle with Current Control, 90 % Duty Cycle, -40 to +105 degC, 16-pin SOIC (D), Green (RoHS & no Sb/Br); PartNumber: UCC28220DG4; Manufacturer: Texas Instruments; Duty Cycle(Max)(%): 90; Frequency(Max)(kHz): 2000; Rating: Catalog; Regulated Outputs(#): 2; Topology: Flyback, Forward; UVLO Thresholds On/Off(V): 10.0/8.0; DatasheetVersion: SLUS544E; PackageVersion: revM, Jun-2011; PackageReference: D16; PackageDescription: 16-Pin Plastic Small Outline Integrated Circuit, 9.9 x 3.9 mm, Pitch 1.27 mm Pitch; Supplier 1: Digi-Key; Supplier Part Number 1: UCC28220DG4-ND; Supplier 2: Newark; Supplier Part Number 2: 41M6409; Supplier 3: Mouser; Supplier Part Number 3: 595-UCC28220DG4; Control Method: Current; Eco-Plan: Green (RoHS & no Sb/Br); SubFamily: PWM Controller; Mounting Technology: Surface Mount; Code_JEDEC: MS-012AC; ComponentLink1Description: Datasheet; ComponentLink1URL: http://www.ti.com/general/docs/lit/getliterature.tsp?genericPartNumber=UCC28220&fileType=pdf
footprint D16_N (SOIC, 16-Leads, Body 9.9x3.9mm, Pitch 1.27mm, IPC Medium Density)
footprint D16_L (SOIC, 16-Leads, Body 9.9x3.9mm, Pitch 1.27mm, IPC High Density)
footprint D16_M (SOIC, 16-Leads, Body 9.9x3.9mm, Pitch 1.27mm, IPC Low Density)
pins: 1 LINEOV (in) "This pin is connected to a comparator and used to monitor the line voltage for an over voltage condition. The typical threshold is 1.26 V.", 2 LINEHYS (in) "This pin is controlled by both the LINEOV and LINEUV pins. It is used to control the hysteresis values for both the over and under voltage line detectors.", 3 VDD (power) "This is used to supply power to the device, monitoring this pin is a the UVLO circuit.", 4 CS1 (in) "This pin is the current sense inputs to the device.", 5 SLOPE "This pin sets up a current used for the slope compensation ramp. A resistor to ground sets up a current, which is internally divided by 25 and then applied to an internal 10-pF capacitor. Under normal operation th dc voltage (See Datasheet)", 6 CS2 (in) "This pin is the current sense inputs to the device.", 7 SS (in) "A capacitor to ground sets up the soft-start time for the open loop soft-start function.", 8 CTRL (in) "Feedback control input.", 9 DISCHG "A resistor from this pin to GND sets up the discharge current of the internal CT capacitor used in the oscillator. This resistor, in conjunction with the resistor on the CHG pin is used to set up the operating frequency and (See Datasheet)", 10 CHG "A resistor from this pin to GND sets up the charging current of the internal CT capacitor used in the oscillator. This resistor, in conjunction with the resistor on the DISCHG pin is used to set up the operating frequency (See Datasheet)", 11 GND (power) "Device ground", 12 OUT2 (out) "This output buffer is intended to interface with high current MOSFET drivers. The output drive capability is approximately 33 mA and has an output impedance of 100 ohm. The outputs swing between GND and REF.", 13 OUT1 (out) "This output buffer is intended to interface with high current MOSFET drivers. The output drive capability is approximately 33 mA and has an output impedance of 100 ohm. The outputs swing between GND and REF.", 14 REF (out) "REF is a 3.3-V output used primarily as a source for the output buffers and other internal circuits. It is protected from accidental shorts to ground. For improved noise immunity it is recommended that the reference pin be (See Datasheet)", 15 LINEUV (in) "This pin is connected to a comparator and used to monitor the line voltage for an under voltage condition. The typical threshold is 1.26 V.", 16 NC "No connection."

## UCC28220DR
designator U?
Interleaved Dual PWM Controller with Programmable Max Duty Cycle with Current Control, 90 % Duty Cycle, -40 to +105 degC, 16-pin SOIC (D), Green (RoHS & no Sb/Br); PartNumber: UCC28220DR; Manufacturer: Texas Instruments; Duty Cycle(Max)(%): 90; Frequency(Max)(kHz): 2000; Input Line Monitor: Y; Rating: Catalog; Regulated Outputs(#): 2; Topology: Flyback, Forward; UVLO Thresholds On/Off(V): 10.0/8.0; DatasheetVersion: SLUS544E; PackageVersion: revM, Jun-2011; PackageReference: D16; PackageDescription: 16-Pin Plastic Small Outline Integrated Circuit, 9.9 x 3.9 mm, Pitch 1.27 mm Pitch; Supplier 1: Digi-Key; Supplier Part Number 1: UCC28220DR-ND; Supplier 2: Newark; Supplier Part Number 2: 87H4689; Supplier 3: Mouser; Supplier Part Number 3: 595-UCC28220DR; Control Method: Current; Eco-Plan: Green (RoHS & no Sb/Br); SubFamily: PWM Controller; Mounting Technology: Surface Mount; Code_JEDEC: MS-012AC; ComponentLink1Description: Datasheet; ComponentLink1URL: http://www.ti.com/general/docs/lit/getliterature.tsp?genericPartNumber=UCC28220&fileType=pdf
footprint D16_N (SOIC, 16-Leads, Body 9.9x3.9mm, Pitch 1.27mm, IPC Medium Density)
footprint D16_L (SOIC, 16-Leads, Body 9.9x3.9mm, Pitch 1.27mm, IPC High Density)
footprint D16_M (SOIC, 16-Leads, Body 9.9x3.9mm, Pitch 1.27mm, IPC Low Density)
pins: 1 LINEOV (in) "This pin is connected to a comparator and used to monitor the line voltage for an over voltage condition. The typical threshold is 1.26 V.", 2 LINEHYS (in) "This pin is controlled by both the LINEOV and LINEUV pins. It is used to control the hysteresis values for both the over and under voltage line detectors.", 3 VDD (power) "This is used to supply power to the device, monitoring this pin is a the UVLO circuit.", 4 CS1 (in) "This pin is the current sense inputs to the device.", 5 SLOPE "This pin sets up a current used for the slope compensation ramp. A resistor to ground sets up a current, which is internally divided by 25 and then applied to an internal 10-pF capacitor. Under normal operation th dc voltage (See Datasheet)", 6 CS2 (in) "This pin is the current sense inputs to the device.", 7 SS (in) "A capacitor to ground sets up the soft-start time for the open loop soft-start function.", 8 CTRL (in) "Feedback control input.", 9 DISCHG "A resistor from this pin to GND sets up the discharge current of the internal CT capacitor used in the oscillator. This resistor, in conjunction with the resistor on the CHG pin is used to set up the operating frequency and (See Datasheet)", 10 CHG "A resistor from this pin to GND sets up the charging current of the internal CT capacitor used in the oscillator. This resistor, in conjunction with the resistor on the DISCHG pin is used to set up the operating frequency (See Datasheet)", 11 GND (power) "Device ground", 12 OUT2 (out) "This output buffer is intended to interface with high current MOSFET drivers. The output drive capability is approximately 33 mA and has an output impedance of 100 ohm. The outputs swing between GND and REF.", 13 OUT1 (out) "This output buffer is intended to interface with high current MOSFET drivers. The output drive capability is approximately 33 mA and has an output impedance of 100 ohm. The outputs swing between GND and REF.", 14 REF (out) "REF is a 3.3-V output used primarily as a source for the output buffers and other internal circuits. It is protected from accidental shorts to ground. For improved noise immunity it is recommended that the reference pin be (See Datasheet)", 15 LINEUV (in) "This pin is connected to a comparator and used to monitor the line voltage for an under voltage condition. The typical threshold is 1.26 V.", 16 NC "No connection."

## UCC28220DRG4
designator U?
Interleaved Dual PWM Controller with Programmable Max Duty Cycle with Current Control, 90 % Duty Cycle, -40 to +105 degC, 16-pin SOIC (D), Green (RoHS & no Sb/Br); PartNumber: UCC28220DRG4; Manufacturer: Texas Instruments; Duty Cycle(Max)(%): 90; Frequency(Max)(kHz): 2000; Input Line Monitor: Y; Rating: Catalog; Regulated Outputs(#): 2; Topology: Flyback, Forward; UVLO Thresholds On/Off(V): 10.0/8.0; DatasheetVersion: SLUS544E; PackageVersion: revM, Jun-2011; PackageReference: D16; PackageDescription: 16-Pin Plastic Small Outline Integrated Circuit, 9.9 x 3.9 mm, Pitch 1.27 mm Pitch; Supplier 1: Digi-Key; Supplier Part Number 1: UCC28220DRG4-ND; Supplier 2: Newark; Supplier Part Number 2: 61K1959; Supplier 3: Mouser; Supplier Part Number 3: 595-UCC28220DRG4; Control Method: Current; Eco-Plan: Green (RoHS & no Sb/Br); SubFamily: PWM Controller; Mounting Technology: Surface Mount; Code_JEDEC: MS-012AC; ComponentLink1Description: Datasheet; ComponentLink1URL: http://www.ti.com/general/docs/lit/getliterature.tsp?genericPartNumber=UCC28220&fileType=pdf
footprint D16_N (SOIC, 16-Leads, Body 9.9x3.9mm, Pitch 1.27mm, IPC Medium Density)
footprint D16_L (SOIC, 16-Leads, Body 9.9x3.9mm, Pitch 1.27mm, IPC High Density)
footprint D16_M (SOIC, 16-Leads, Body 9.9x3.9mm, Pitch 1.27mm, IPC Low Density)
pins: 1 LINEOV (in) "This pin is connected to a comparator and used to monitor the line voltage for an over voltage condition. The typical threshold is 1.26 V.", 2 LINEHYS (in) "This pin is controlled by both the LINEOV and LINEUV pins. It is used to control the hysteresis values for both the over and under voltage line detectors.", 3 VDD (power) "This is used to supply power to the device, monitoring this pin is a the UVLO circuit.", 4 CS1 (in) "This pin is the current sense inputs to the device.", 5 SLOPE "This pin sets up a current used for the slope compensation ramp. A resistor to ground sets up a current, which is internally divided by 25 and then applied to an internal 10-pF capacitor. Under normal operation th dc voltage (See Datasheet)", 6 CS2 (in) "This pin is the current sense inputs to the device.", 7 SS (in) "A capacitor to ground sets up the soft-start time for the open loop soft-start function.", 8 CTRL (in) "Feedback control input.", 9 DISCHG "A resistor from this pin to GND sets up the discharge current of the internal CT capacitor used in the oscillator. This resistor, in conjunction with the resistor on the CHG pin is used to set up the operating frequency and (See Datasheet)", 10 CHG "A resistor from this pin to GND sets up the charging current of the internal CT capacitor used in the oscillator. This resistor, in conjunction with the resistor on the DISCHG pin is used to set up the operating frequency (See Datasheet)", 11 GND (power) "Device ground", 12 OUT2 (out) "This output buffer is intended to interface with high current MOSFET drivers. The output drive capability is approximately 33 mA and has an output impedance of 100 ohm. The outputs swing between GND and REF.", 13 OUT1 (out) "This output buffer is intended to interface with high current MOSFET drivers. The output drive capability is approximately 33 mA and has an output impedance of 100 ohm. The outputs swing between GND and REF.", 14 REF (out) "REF is a 3.3-V output used primarily as a source for the output buffers and other internal circuits. It is protected from accidental shorts to ground. For improved noise immunity it is recommended that the reference pin be (See Datasheet)", 15 LINEUV (in) "This pin is connected to a comparator and used to monitor the line voltage for an under voltage condition. The typical threshold is 1.26 V.", 16 NC "No connection."

## UCC28220PW
designator U?
Interleaved Dual PWM Controller with Programmable Max Duty Cycle with Current Control, 90 % Duty Cycle, -40 to +105 degC, 16-pin TSSOP (PW), Green (RoHS & no Sb/Br); PartNumber: UCC28220PW; Manufacturer: Texas Instruments; Duty Cycle(Max)(%): 90; Frequency(Max)(kHz): 2000; Input Line Monitor: Y; Rating: Catalog; Regulated Outputs(#): 2; Topology: Flyback, Forward; UVLO Thresholds On/Off(V): 10.0/8.0; DatasheetVersion: SLUS544E; PackageVersion: revG, Feb-2011; PackageReference: PW16; PackageDescription: 16-Pin Plastic Thin Small Outline Package 5 x 4.4 mm Body ,0.65 mm Pitch; Supplier 1: Digi-Key; Supplier Part Number 1: 296-15756-5-ND; Supplier 2: Newark; Supplier Part Number 2: 87H4690; Supplier 3: Mouser; Supplier Part Number 3: 595-UCC28220PW; Control Method: Current; Eco-Plan: Green (RoHS & no Sb/Br); SubFamily: PWM Controller; Mounting Technology: Surface Mount; Code_JEDEC: MO-153; ComponentLink1Description: Datasheet; ComponentLink1URL: http://www.ti.com/general/docs/lit/getliterature.tsp?genericPartNumber=UCC28220&fileType=pdf
footprint PW16_N (TSOP, 16-Leads, Body 5x4.4mm, Pitch 0.65mm, IPC Medium Density)
footprint PW16_L (TSOP, 16-Leads, Body 5x4.4mm, Pitch 0.65mm, IPC High Density)
footprint PW16_M (TSOP, 16-Leads, Body 5x4.4mm, Pitch 0.65mm, IPC Low Density)
pins: 1 LINEOV (in) "Input for line over voltage comparator", 2 LINEHYS (in) "Sets line comparator hysteresis", 3 VDD (power) "Device supply input", 4 CS1 (in) "Channel 1 current sense input", 5 SLOPE (in) "Sets slope compensation", 6 CS2 (in) "Channel 2 current sense input", 7 SS (in) "Soft-start input", 8 CTRL (in) "Feedback control input", 9 DISCHG "Sets oscillator discharge current", 10 CHG "Sets oscillator charge current", 11 GND (power) "Device ground", 12 OUT2 (out) "PWM output from channel 2", 13 OUT1 (out) "PWM output from channel 1", 14 REF (out) "Reference voltage output", 15 LINEUV (in) "Input for line under voltage comparator", 16 N/C "No connection"